# EAGLE library part LT1789-1-INSTR-AMP (library foe-scale)
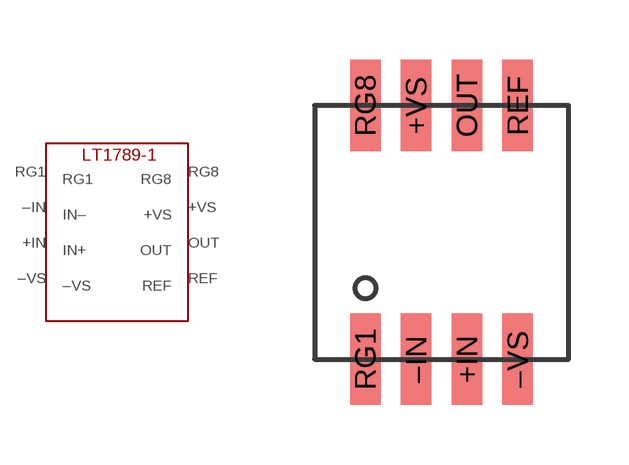
[diagram p14: symbol with the pads of S8-LT1789-1; footprint S8-LT1789-1]

Designator prefix -

## LT1789-1-INSTR-AMP  [S8-LT1789-1]
+IN  IN+
+VS  +VS
OUT  OUT
REF  REF
RG1  RG1
RG8  RG8
–IN  IN–
–VS  –VS

## Footprint S8-LT1789-1 (pad centres in mm)
smd 0.762 x 2.286: +IN 2.54,0; +VS 1.27,6.35; OUT 2.54,6.35; REF 3.81,6.35; RG1 0,0; RG8 0,6.35; –IN 1.27,0; –VS 3.81,0